# Altium schematic symbol library capacitor.SchLib: 2 symbols
Pins are listed as number, name and electrical type; pins without a type are passive.

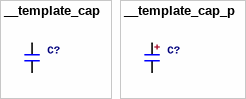
[diagram p0: symbols __template_cap to __template_cap_p]

## __template_cap
designator C?
pins: 1, 2

## __template_cap_p
designator C?
pins: 1, 2
text: +